# Altium schematic symbol library Inductor.SchLib: 1 symbol
Pins are listed as number, name and electrical type; pins without a type are passive.

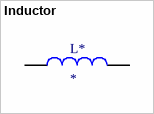
[diagram p0: symbol Inductor]

## Inductor
designator L*
Value: 10uH
footprint 74477110 Inductor
footprint 744311330
pins: 1, 2